# EAGLE library part 74LS158 (library atari)
Quadruple 2-Line To 1-Line Multiplexer
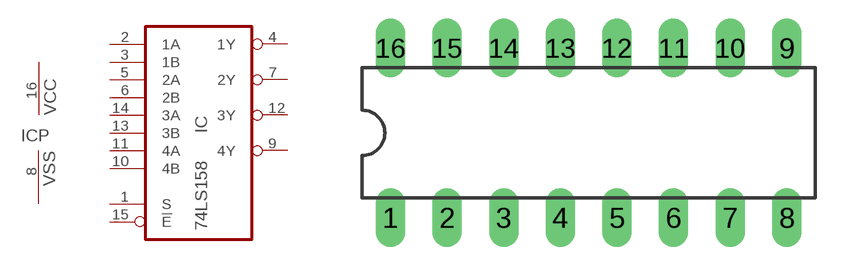
[diagram p16: symbol with the pads of DIL16; footprint DIL16]

Designator prefix IC; gates =74LS158 P=VCCVSS

## 74LS158  [DIL16]
1  :S  in
2  :1A  in
3  :1B  in
4  :1Y  out
5  :2A  in
6  :2B  in
7  :2Y  out
8  P:VSS  pwr
9  :4Y  out
10  :4B  in
11  :4A  in
12  :3Y  out
13  :3B  in
14  :3A  in
15  :!E  in
16  P:VCC  pwr

## Footprint DIL16 (pad centres in mm)
drill 0.813 long: 1 -8.89,-3.81; 2 -6.35,-3.81; 3 -3.81,-3.81; 4 -1.27,-3.81; 5 1.27,-3.81; 6 3.81,-3.81; 7 6.35,-3.81; 8 8.89,-3.81; 9 8.89,3.81; 10 6.35,3.81; 11 3.81,3.81; 12 1.27,3.81; 13 -1.27,3.81; 14 -3.81,3.81; 15 -6.35,3.81; 16 -8.89,3.81